# Altium footprint library Logique.PcbLib: 5 footprints
Each footprint in its own frame and in the unit in brackets; x right, y up, seen from the top. Pads: shape width x height; smd on the part's side, far side on the other; paste and mask are expansions set on the pad; w line width, h text height; cw(c..) or ccw(c..) is an arc to the next point about the centre after c.
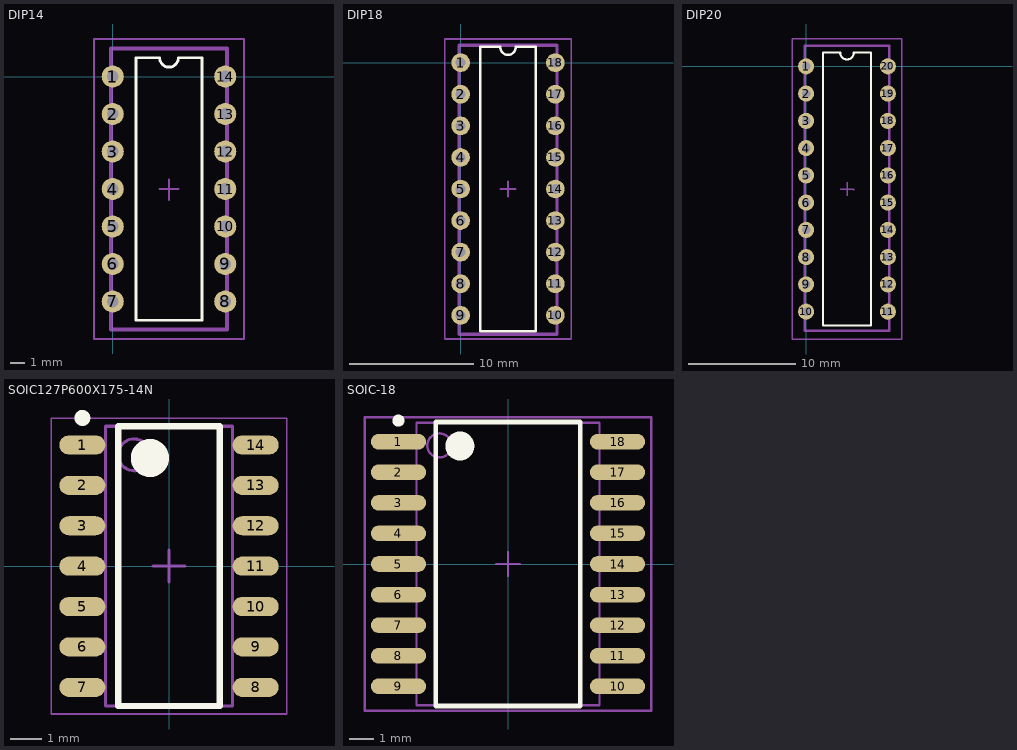
[diagram p0: the footprints below, top view; thin cyan lines are the x and y axes]

## DIP14 [mm]
pads (14):
  round 1.5 hole 0.8: 1(0,0) 2(0,-2.54) 3(0,-5.08) 4(0,-7.62) 5(0,-10.16) 6(0,-12.7) 7(0,-15.24) 8(7.62,-15.24) 9(7.62,-12.7) 10(7.62,-10.16) 11(7.62,-7.62) 12(7.62,-5.08) 13(7.62,-2.54) 14(7.62,0)
Top Overlay:
  lines w0.2: 1.585,-16.51 1.585,1.27 3.175,1.27 ccw(c3.81,1.27) 4.445,1.27 6.035,1.27 6.035,-16.51 1.585,-16.51
Mechanical 13:
  lines w0.254: -0.127,-17.145 7.747,-17.145 7.747,1.905 -0.127,1.905 -0.127,-17.145
Mechanical 15:
  lines w0.127: 3.175,-7.62 4.445,-7.62 ; 3.81,-8.382 3.81,-6.985 ; -1.27,-17.78 8.89,-17.78 8.89,2.54 -1.27,2.54 -1.27,-17.78
Mechanical 17:
  text ".Designator" at 3.429,-2.032 h2
3D body "DIP14.step": height 4.19, standoff -2.67, extent -0.127,-17.145 7.747,1.905

## DIP18 [mm]
pads (18):
  round 1.5 hole 0.8: 1(0,0) 2(0,-2.54) 3(0,-5.08) 4(0,-7.62) 5(0,-10.16) 6(0,-12.7) 7(0,-15.24) 8(0,-17.78) 9(0,-20.32) 10(7.62,-20.32) 11(7.62,-17.78) 12(7.62,-15.24) 13(7.62,-12.7) 14(7.62,-10.16) 15(7.62,-7.62) 16(7.62,-5.08) 17(7.62,-2.54) 18(7.62,0)
Top Overlay:
  lines w0.2: 1.585,-21.59 6.035,-21.59 6.035,1.27 4.445,1.27 cw(c3.81,1.27) 3.175,1.27 1.585,1.27 1.585,-21.59
Mechanical 13:
  lines w0.254: -0.127,-21.844 7.747,-21.844 7.747,1.397 -0.127,1.397 -0.127,-21.844
Mechanical 15:
  lines w0.127: 3.175,-10.16 4.445,-10.16 ; 3.81,-10.795 3.81,-9.525 ; -1.27,-22.225 8.89,-22.225 8.89,1.905 -1.27,1.905 -1.27,-22.225
Mechanical 17:
  text ".Designator" at 3.429,-4.318 h2
3D body "DIP18.STEP": height 4.57, standoff -3.81, extent -0.1,-21.844 7.72,1.396

## DIP20 [mm]
pads (20):
  round 1.5 hole 0.8: 1(0,0) 2(0,-2.54) 3(0,-5.08) 4(0,-7.62) 5(0,-10.16) 6(0,-12.7) 7(0,-15.24) 8(0,-17.78) 9(0,-20.32) 10(0,-22.86) 11(7.62,-22.86) 12(7.62,-20.32) 13(7.62,-17.78) 14(7.62,-15.24) 15(7.62,-12.7) 16(7.62,-10.16) 17(7.62,-7.62) 18(7.62,-5.08) 19(7.62,-2.54) 20(7.62,0)
Top Overlay:
  lines w0.2: 1.585,-24.13 1.585,1.27 3.175,1.27 ccw(c3.81,1.27) 4.445,1.27 6.035,1.27 6.035,-24.13 1.585,-24.13
Mechanical 13:
  lines w0.254: -0.127,-24.638 -0.127,1.905 7.747,1.905 7.747,-24.638 -0.127,-24.638
Mechanical 15:
  lines w0.127: 3.175,-11.43 4.445,-11.43 4.445,-11.557 ; 3.81,-12.065 3.81,-10.795 ; -1.27,-25.4 -1.27,2.54 8.89,2.54 8.89,-25.4 -1.27,-25.4
Mechanical 17:
  text ".Designator" at 3.429,-5.842 h2
3D body "User Library-DIP20.STEP": height 4.57, standoff -3.81, extent -0.1,-24.635 7.72,1.905

## SOIC127P600X175-14N [mm] "SOIC, 14-Leads, Body 8,65x3,90mm, Pitch 1,27mm, IPC Medium Density"
height 1.75
pads (14):
  oval 1.45x0.6 smd: 1(-2.725,3.81) 2(-2.725,2.54) 3(-2.725,1.27) 4(-2.725,0) 5(-2.725,-1.27) 6(-2.725,-2.54) 7(-2.725,-3.81) 8(2.725,-3.81) 9(2.725,-2.54) 10(2.725,-1.27) 11(2.725,0) 12(2.725,1.27) 13(2.725,2.54) 14(2.725,3.81)
Top Overlay:
  circle w0.6: c-0.6,3.4 r0.3
  circle w0.25: c-2.725,4.66 r0.125
  lines w0.2: -1.6,-4.4 1.6,-4.4 1.6,4.4 -1.6,4.4 -1.6,-4.4
Mechanical 13:
  circle w0.1: c-1.1,3.5 r0.5
  lines w0.1: -2,-4.4 2,-4.4 2,4.4 -2,4.4 -2,-4.4
Mechanical 15:
  lines w0.05: -3.7,-4.65 3.7,-4.65 3.7,4.65 -3.7,4.65 -3.7,-4.65
  lines w0.1: -0.5,0 0.5,0 ; 0,-0.5 0,0.5
3D body: height 1.75, standoff 0.1, extent -2,-4.4 2,4.4

## SOIC-18 [mm] "SOIC, 18-Leads, Body 11,8x7,6mm (max), Pitch 1,27mm, IPC Medium Density"
height 2.65
pads (18):
  oval 2.3x0.65 smd: 1(-4.55,5.08) 2(-4.55,3.81) 3(-4.55,2.54) 4(-4.55,1.27) 5(-4.55,0) 6(-4.55,-1.27) 7(-4.55,-2.54) 8(-4.55,-3.81) 9(-4.55,-5.08) 10(4.55,-5.08) 11(4.55,-3.81) 12(4.55,-2.54) 13(4.55,-1.27) 14(4.55,0) 15(4.55,1.27) 16(4.55,2.54) 17(4.55,3.81) 18(4.55,5.08)
Top Overlay:
  circle w0.25: c-4.55,5.955 r0.125
  circle w0.6: c-2,4.9 r0.3
  lines w0.2: -3,-5.9 -3,5.9 3,5.9 3,-5.9 -3,-5.9
Mechanical 13:
  circle w0.1: c-2.85,4.925 r0.5
  lines w0.1: -3.8,-5.875 -3.8,5.875 3.8,5.875 3.8,-5.875 -3.8,-5.875
Mechanical 15:
  lines w0.1: -0.5,0 0.5,0 ; 0,-0.5 0,0.5 ; -5.95,-6.1 -5.95,6.1 5.95,6.1 5.95,-6.1 -5.95,-6.1
Mechanical 17:
  text ".Designator" at 0.635,-5.461 h2
3D body: height 2.65, standoff 0.1, extent -3.8,-5.875 3.8,5.875